# Altium schematic symbol library Fuse501.SchLib: 1 symbol
Pins are listed as number, name and electrical type; pins without a type are passive.

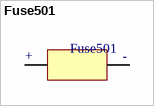
[diagram p0: symbol Fuse501]

## Fuse501
designator Fuse501  (value not drawn)
pins: Fuse+, Fuse-
text: +; -